# EAGLE library part SL-2X4G_SMD (library 1_USER)
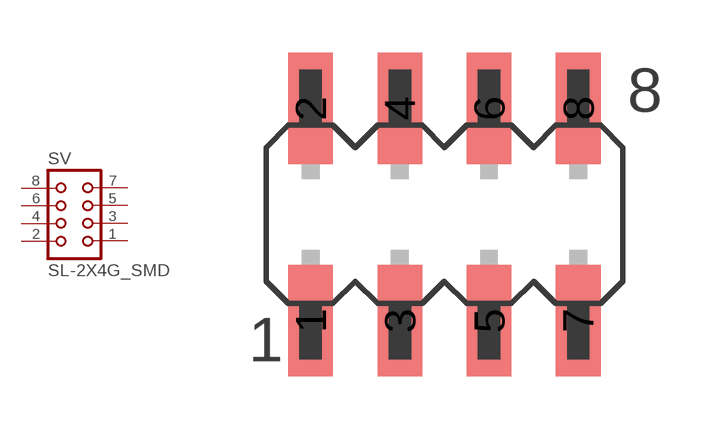
[diagram p10: symbol with the pads of SL-2X4G_SMD; footprint SL-2X4G_SMD]

Designator prefix SV

## SL-2X4G_SMD  [SL-2X4G_SMD]
1  1  pas
2  2  pas
3  3  pas
4  4  pas
5  5  pas
6  6  pas
7  7  pas
8  8  pas

## Footprint SL-2X4G_SMD (pad centres in mm)
smd 1.27 x 3.17: 1 -3.81,-3.027; 2 -3.81,3.027; 3 -1.27,-3.027; 4 -1.27,3.027; 5 1.27,-3.027; 6 1.27,3.027; 7 3.81,-3.027; 8 3.81,3.027